# EAGLE library part ZUS25_0505 (library takeyama)
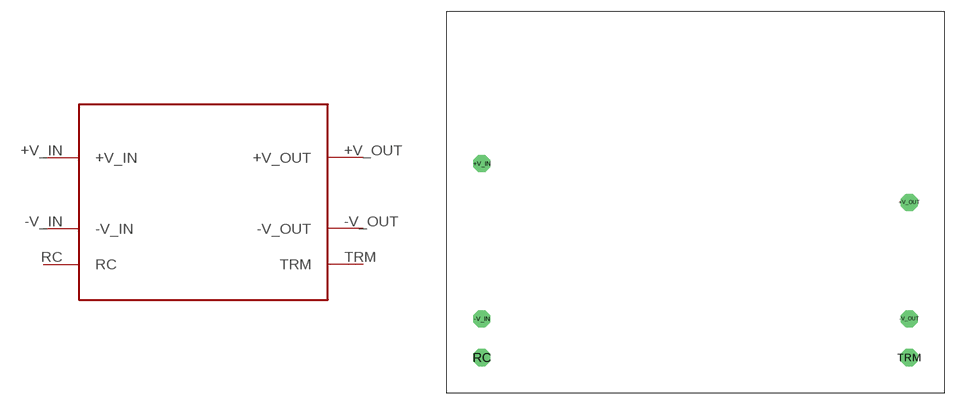
[diagram p0: symbol with the pads of ZUS25_0505; footprint ZUS25_0505]

Designator prefix -

## ZUS25_0505  [ZUS25_0505]
+V_IN  +V_IN
+V_OUT  +V_OUT
-V_IN  -V_IN
-V_OUT  -V_OUT
RC  RC
TRM  TRM

## Footprint ZUS25_0505 (pad centres in mm)
drill 1.5 octagon: +V_IN -27.94,5.08; +V_OUT 27.94,0; -V_IN -27.94,-15.24; -V_OUT 27.94,-15.24; RC -27.94,-20.32; TRM 27.94,-20.32